# Altium footprint library flashFootprint.PcbLib: 1 footprints
Each footprint in its own frame and in the unit in brackets; x right, y up, seen from the top. Pads: shape width x height; smd on the part's side, far side on the other; paste and mask are expansions set on the pad; w line width, h text height; cw(c..) or ccw(c..) is an arc to the next point about the centre after c.
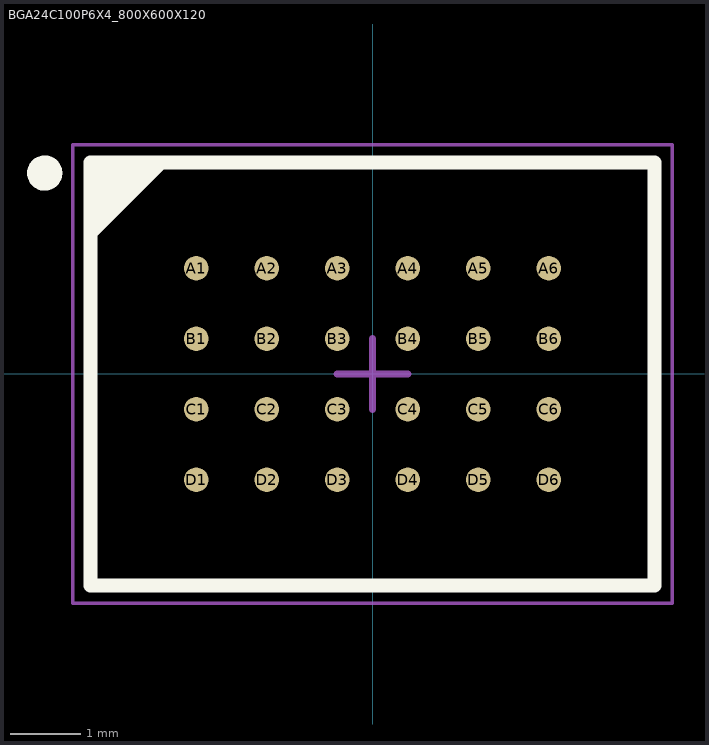
[diagram p0: the footprint, top view; thin cyan lines are the x and y axes]

## BGA24C100P6X4_800X600X120 [mm] "BGA, 24-Leads, Body 8.00x6.00mmx1.20mm, Pitch 1.00mm"
height 1.2
pads (24):
  round 0.35 smd: A1(-2.5,1.5) A2(-1.5,1.5) A3(-0.5,1.5) A4(0.5,1.5) A5(1.5,1.5) A6(2.5,1.5) B1(-2.5,0.5) B2(-1.5,0.5) B3(-0.5,0.5) B4(0.5,0.5) B5(1.5,0.5) B6(2.5,0.5) C1(-2.5,-0.5) C2(-1.5,-0.5) C3(-0.5,-0.5) C4(0.5,-0.5) C5(1.5,-0.5) C6(2.5,-0.5) D1(-2.5,-1.5) D2(-1.5,-1.5) D3(-0.5,-1.5) D4(0.5,-1.5) D5(1.5,-1.5) D6(2.5,-1.5)
Top Overlay:
  circle w0.25: c-4.65,2.85 r0.125
  region: -3,3 -4,2 -4,3
  lines w0.2: -4,2 -3,3 ; -4,-3 4,-3 4,3 -4,3 -4,-3
Mechanical 13:
  lines w0.1: -4,-3 4,-3 4,3 -4,3 -4,-3
Mechanical 15:
  lines w0.05: -4.25,-3.25 4.25,-3.25 4.25,3.25 -4.25,3.25 -4.25,-3.25
  lines w0.1: -0.5,0 0.5,0 ; 0,-0.5 0,0.5
3D body: height 1.2, standoff 0.25, extent -4,-3 4,3